# EAGLE library part SENSOR_MODULE_MK1 (library 000_CustomPartsMaster)
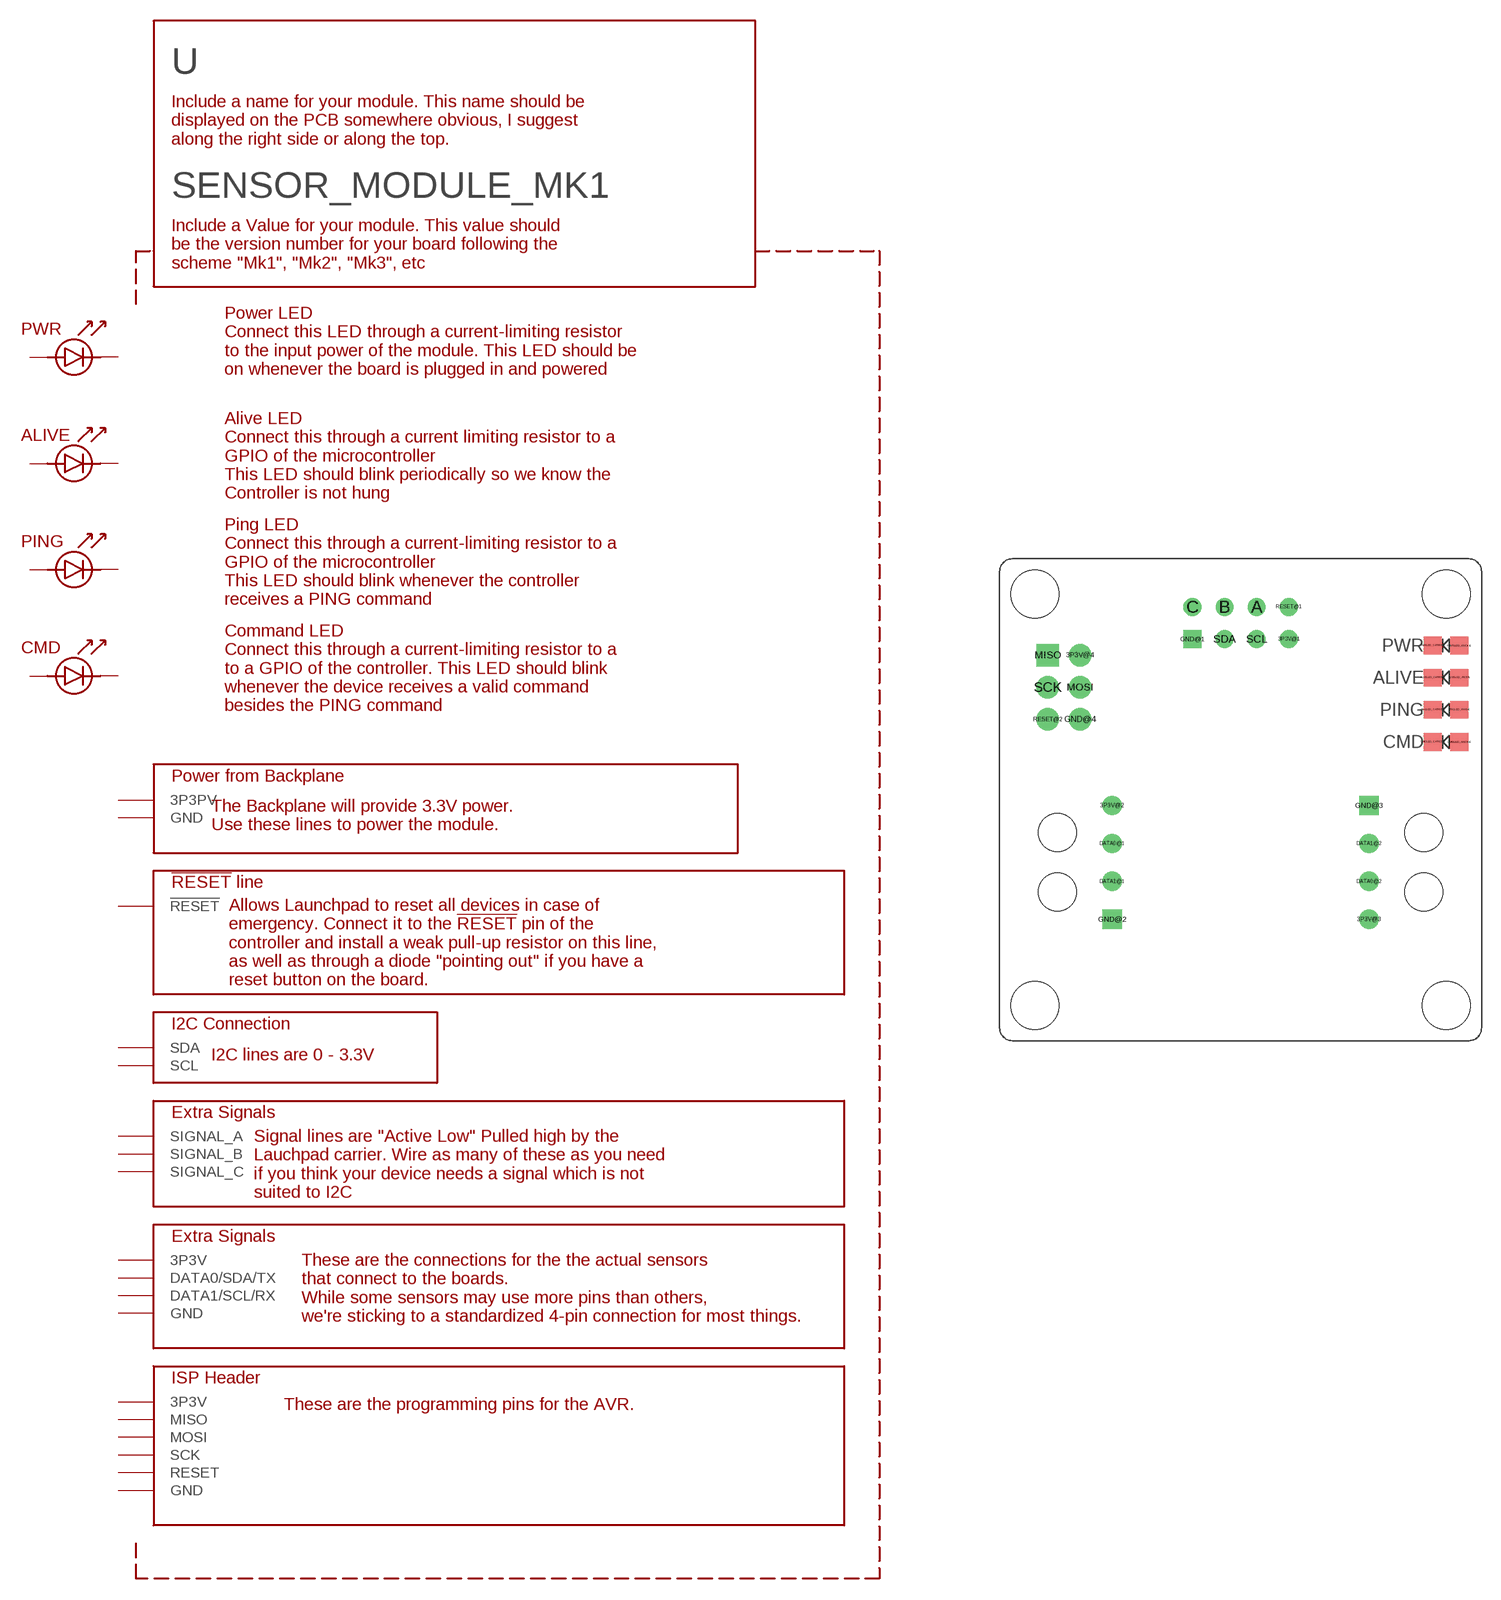
[diagram p28: symbol with the pads of SENSOR_MODULE_MK1; footprint SENSOR_MODULE_MK1]

Designator prefix -

## SENSOR_MODULE_MK1  [SENSOR_MODULE_MK1]
3P3V@1  3P3PV
3P3V@2  3P3V
3P3V@3  3P3V
3P3V@4  3P3V
A  SIGNAL_A
ALIVELED_ANODE  ALIVELED_ANODE
ALIVELED_CATHODE  ALIVELED_CATHODE
B  SIGNAL_B
C  SIGNAL_C
CMDLED_ANODE  CMDLED_ANODE
CMDLED_CATHODE  CMDLED_CATHODE
DATA0@1  DATA0/SDA/TX
DATA0@2  DATA0/SDA/TX
DATA1@1  DATA1/SCL/RX
DATA1@2  DATA1/SCL/RX
GND@1  GND
GND@2  GND
GND@3  GND
GND@4  GND
MISO  MISO
MOSI  MOSI
PINGLED_ANODE  PINGLED_ANODE
PINGLED_CATHODE  PINGLED_CATHODE
PWRLED_ANODE  PWRLED_ANODE
PWRLED_CATHODE  PWRLED_CATHODE
RESET@1  !RESET
RESET@2  RESET
SCK  SCK
SCL  SCL
SDA  SDA

## Footprint SENSOR_MODULE_MK1 (pad centres in mm)
drill 0.9: 3P3V@1 22.86,31.75; A 20.32,34.29; B 17.78,34.29; C 15.24,34.29; RESET@1 22.86,34.29; SCL 20.32,31.75; SDA 17.78,31.75
drill 1.02: 3P3V@2 8.892,18.597; 3P3V@3 29.208,9.597; DATA0@1 8.892,15.597; DATA0@2 29.208,12.597; DATA1@1 8.892,12.597; DATA1@2 29.208,15.597
drill 1.1 pad 1.778: 3P3V@4 6.35,30.48; GND@4 6.35,25.4; MOSI 6.35,27.94; RESET@2 3.81,25.4; SCK 3.81,27.94
smd 1.45 x 1.4: ALIVELED_ANODE 36.343,28.702; ALIVELED_CATHODE 34.243,28.702; CMDLED_ANODE 36.343,23.622; CMDLED_CATHODE 34.243,23.622; PINGLED_ANODE 36.343,26.162; PINGLED_CATHODE 34.243,26.162; PWRLED_ANODE 36.343,31.242; PWRLED_CATHODE 34.243,31.242
drill 0.9 square: GND@1 15.24,31.75
drill 1.02 square: GND@2 8.892,9.597; GND@3 29.208,18.597
drill 1.1 pad 1.778 square: MISO 3.81,30.48
hole 3.797 at 2.794,2.794
hole 3.797 at 35.306,2.794
hole 3.797 at 2.794,35.306
hole 3.797 at 35.306,35.306
hole 3 at 4.572,11.747
hole 3 at 4.572,16.447
hole 3 at 33.528,16.447
hole 3 at 33.528,11.747